# EAGLE library part CD4015B (library paparazzi3)
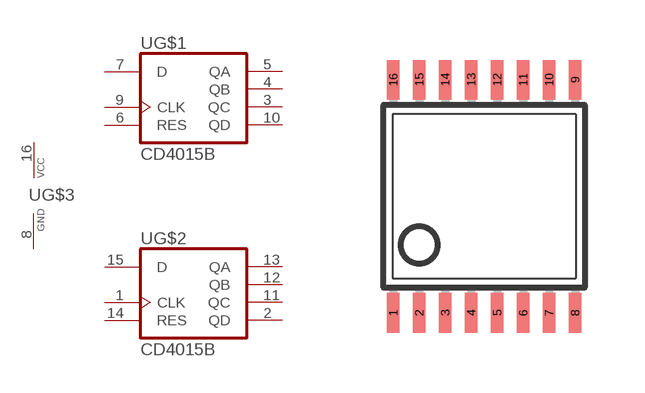
[diagram p31: symbol with the pads of TSSOP16; footprint TSSOP16]

Designator prefix -; gates G$1=4015 G$2=4015 G$3=VCC-GND

## CD4015B  [TSSOP16]
1  G$2:CLK  in
2  G$2:QD  out
3  G$1:QC  out
4  G$1:QB  out
5  G$1:QA  out
6  G$1:RES  in
7  G$1:D  in
8  G$3:GND  pwr
9  G$1:CLK  in
10  G$1:QD  out
11  G$2:QC  out
12  G$2:QB  out
13  G$2:QA  out
14  G$2:RES  in
15  G$2:D  in
16  G$3:VCC  pwr

## Footprint TSSOP16 (pad centres in mm)
Thin Shrink Small Outline Plastic 16 MAX3223-MAX3243.pdf
smd 0.305 x 0.991: 1 -2.275,-2.918; 2 -1.625,-2.918; 3 -0.975,-2.918; 4 -0.325,-2.918; 5 0.325,-2.918; 6 0.975,-2.918; 7 1.625,-2.918; 8 2.275,-2.918; 9 2.275,2.918; 10 1.625,2.918; 11 0.975,2.918; 12 0.325,2.918; 13 -0.325,2.918; 14 -0.975,2.918; 15 -1.625,2.918; 16 -2.275,2.918